# EAGLE library part RFM69HCW (library RoboJackets-RF)
RFM69HCW - ISM Band RF Transceiver
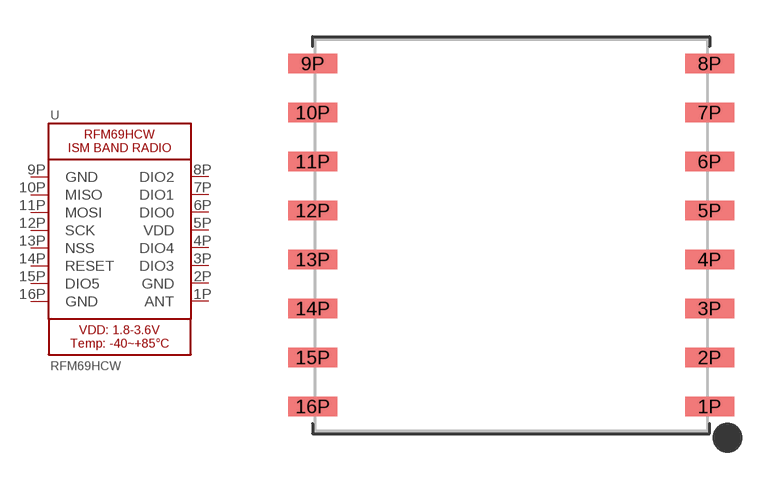
[diagram p5: symbol with the pads of RFMHCW_SMT; footprint RFMHCW_SMT]

Designator prefix U

## RFM69HCW_SMT  [RFMHCW_SMT]
1P  ANT
2P  GND  pwr
3P  DIO3
4P  DIO4
5P  VDD  pwr
6P  DIO0
7P  DIO1
8P  DIO2
9P  GND  pwr
10P  MISO  out
11P  MOSI  in
12P  SCK  in
13P  NSS  in
14P  RESET  in
15P  DIO5
16P  GND  pwr

## Footprint RFMHCW_SMT (pad centres in mm)
smd 2 x 0.8: 1P 8.1,-7; 2P 8.1,-5; 3P 8.1,-3; 4P 8.1,-1; 5P 8.1,1; 6P 8.1,3; 7P 8.1,5; 8P 8.1,7; 9P -8.1,7; 10P -8.1,5; 11P -8.1,3; 12P -8.1,1; 13P -8.1,-1; 14P -8.1,-3; 15P -8.1,-5; 16P -8.1,-7